# EAGLE library part GENERIC-SOIC8 (library RadEagleLib)
A placeholder for generic narrow & wide SOIC8 foorptints - used on the DIP adapter board.
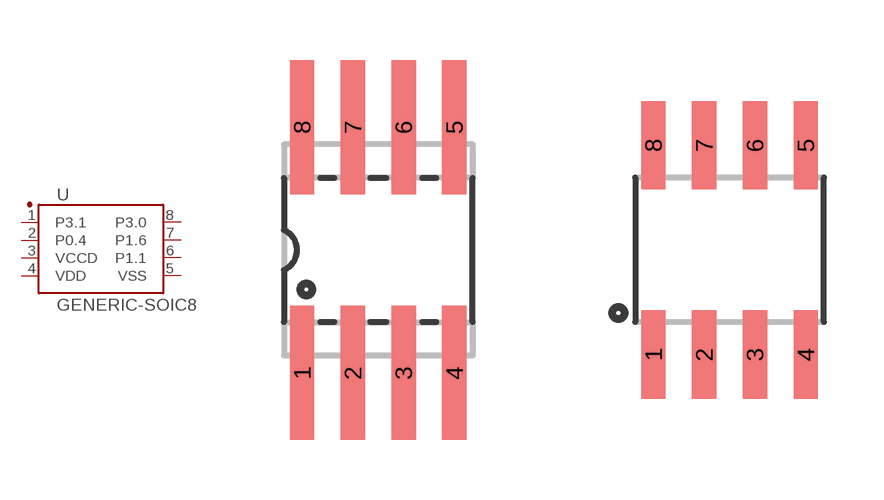
[diagram p1: symbol with the pads of SO08-UNIVERSAL; footprints SO08-UNIVERSAL, CY8C4013SXI-400-SO08]

Designator prefix U

## GENERIC-SOIC8  [SO08-UNIVERSAL]
1  P3.1
2  P0.4
3  VCCD
4  VDD
5  VSS
6  P1.1
7  P1.6
8  P3.0

## GENERIC-SOIC8MSGEQ7N-FILTER (PROD_ID: IC-10141)  [CY8C4013SXI-400-SO08]
Pads as for SO08-UNIVERSAL

## Footprint SO08-UNIVERSAL (pad centres in mm)
SOIC-08 footprint wth long lands. To fit both narrow and wide SOICs - for SOIC-to-DIP adapter board. Not recommended if you're trying to fit a specific chip.
smd 0.61 x 3.353: 1 -1.905,-3.073; 2 -0.635,-3.073; 3 0.635,-3.073; 4 1.905,-3.073; 5 1.905,3.073; 6 0.635,3.073; 7 -0.635,3.073; 8 -1.905,3.073

## Footprint CY8C4013SXI-400-SO08 (pad centres in mm)
Small Outline Package Fits JEDEC packages (narrow SOIC-8)
smd 0.61 x 2.21: 1 -1.905,-2.616; 2 -0.635,-2.616; 3 0.635,-2.616; 4 1.905,-2.616; 5 1.905,2.616; 6 0.635,2.616; 7 -0.635,2.616; 8 -1.905,2.616